# Altium footprint library vod.PcbLib: 41 footprints (part 1 of 3)
Each footprint in its own frame and in the unit in brackets; x right, y up, seen from the top. Pads: shape width x height; smd on the part's side, far side on the other; paste and mask are expansions set on the pad; w line width, h text height; cw(c..) or ccw(c..) is an arc to the next point about the centre after c.
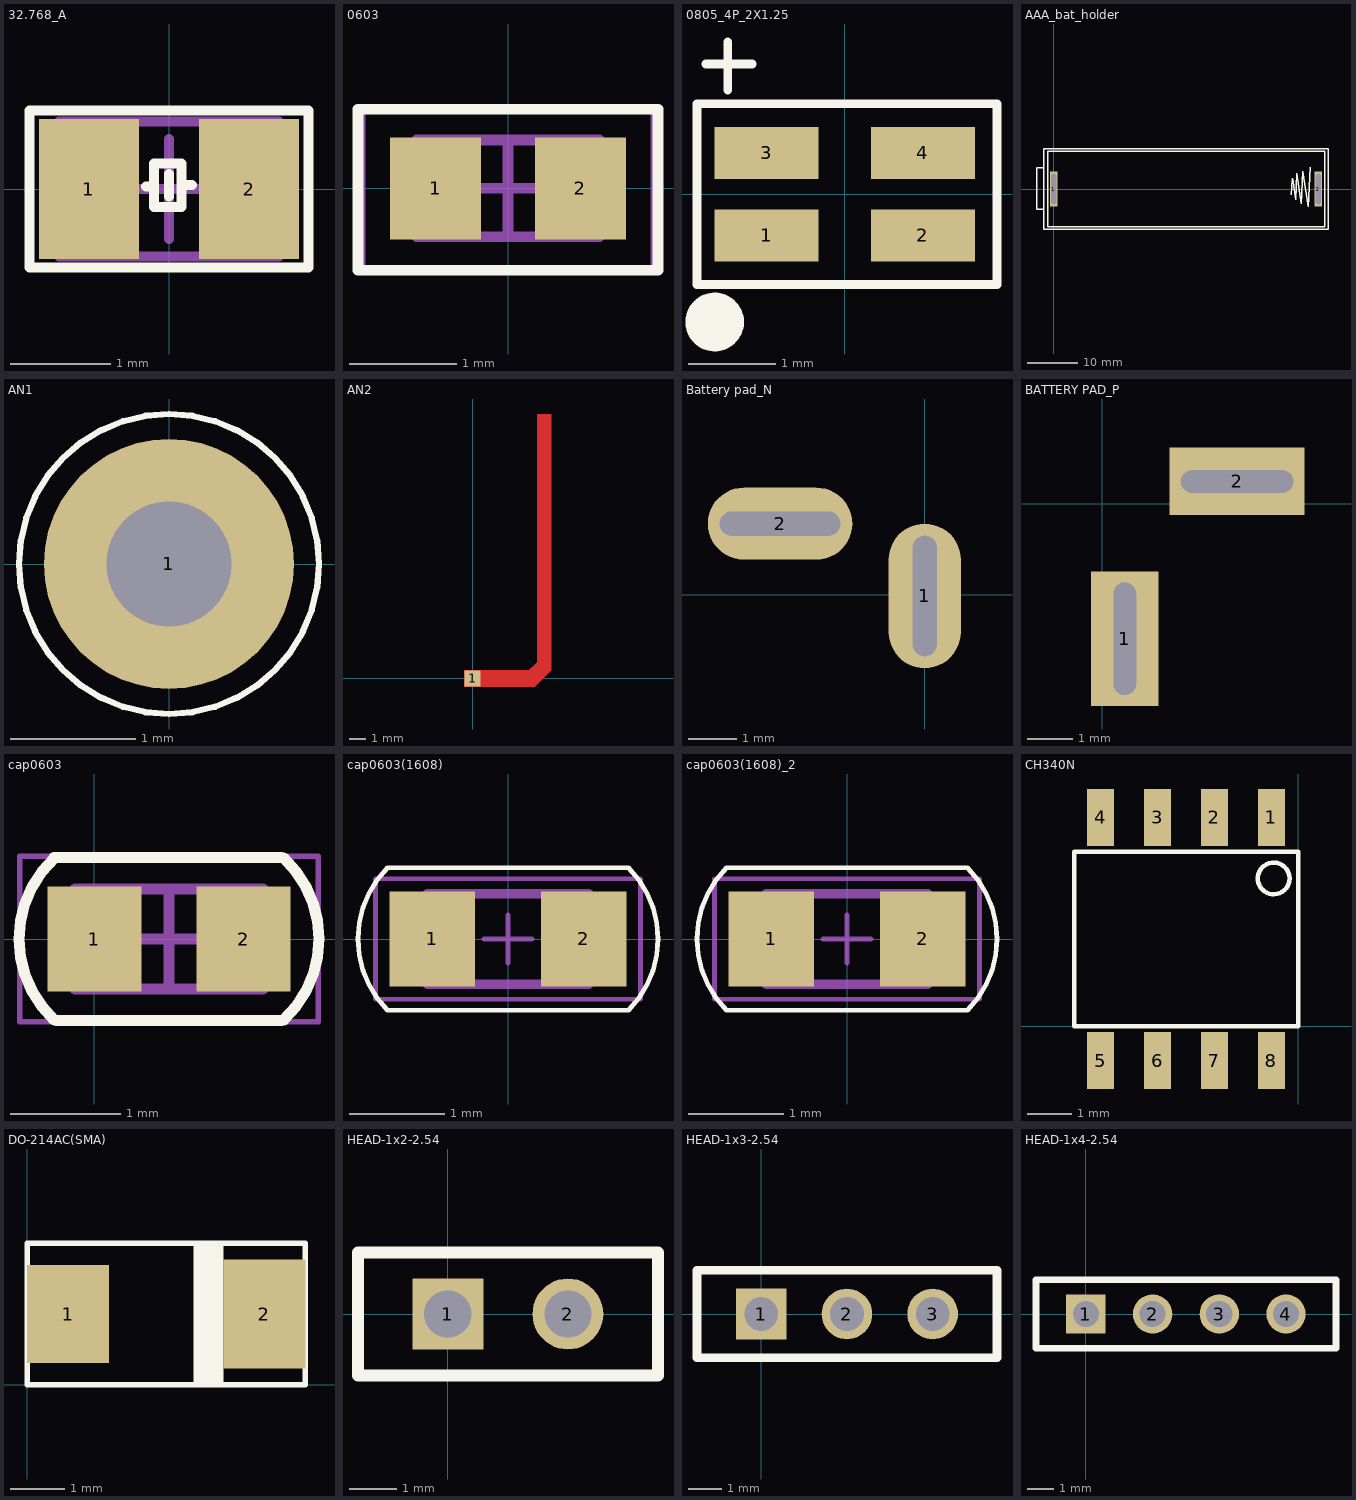
[diagram p0: the footprints below, top view; thin cyan lines are the x and y axes]

## 32.768_A [mm]
height 0.75
pads (2):
  rect 1x1.4 smd mask+0.05: 1(-0.8,0) 2(0.8,0)
Top Overlay:
  lines w0.1: -0.229,0.025 -0.152,0.025 ; 0,-0.076 0,0.152 ; 0.127,0.038 0.229,0.038 ; -1.397,-0.787 -1.397,0.787 1.397,0.787 1.397,-0.787 -1.397,-0.787 ; -0.152,-0.178 -0.152,0.254 0.127,0.254 0.127,-0.178 -0.152,-0.178
Mechanical 13:
  lines w0.1: -1.1,-0.675 -1.1,0.675 1.1,0.675 1.1,-0.675 -1.1,-0.675
Mechanical 15:
  lines w0.1: -0.5,0 0.5,0 ; 0,-0.5 0,0.5
3D body: height 0.7, standoff 0, extent 0.68,-0.675 1.1,0.675
3D body: height 0.7, standoff 0, extent -0.68,-0.675 0.68,0.675
3D body: height 0.7, standoff 0, extent -1.1,-0.675 -0.68,0.675

## 0603 [mm]
pads (2):
  rect 0.85x0.95 smd: 1(-0.675,0) 2(0.675,0)
Top Overlay:
  lines w0.1: -1.397,-0.762 1.143,-0.762 1.397,-0.762 1.397,0.737 -1.397,0.737 -1.397,-0.762
Mechanical 13:
  lines w0.1: -0.85,-0.45 -0.85,0.45 0.85,0.45 0.85,-0.45 -0.85,-0.45
Mechanical 15:
  lines w0.05: -1.35,-0.75 -1.35,0.75 1.35,0.75 1.35,-0.75 -1.35,-0.75
  lines w0.1: -0.45,0 0.45,0 ; 0,-0.45 0,0.45
3D body: height 0.89, standoff 0, extent -0.5,-0.45 0.5,0.45
3D body: height 0.89, standoff 0, extent -0.85,-0.45 -0.5,0.45
3D body: height 0.89, standoff 0, extent 0.5,-0.45 0.85,0.45

## 0805_4P_2X1.25 [mm] "LED_RG_body 2*1.25_4pin"
height 0.7
pads (4):
  rect 1.2x0.6 smd: 1(-0.9,-0.475) 2(0.9,-0.475) 3(-0.9,0.475) 4(0.9,0.475)
Top Overlay:
  circle w0.35: c-1.499,-1.473 r0.163
  lines w0.1: -1.6,1.499 -1.067,1.499 ; -1.346,1.194 -1.346,1.753 ; -1.702,-1.041 1.753,-1.041 1.753,1.041 -1.702,1.041 -1.702,-1.041
3D body: height 0.8, standoff 0.05, extent -1.651,-0.965 1.727,0.965

## AAA_bat_holder [mm]
pads (2):
  rect 1.5x7 hole 1 slot 6 at 90 deg: 1(0,0) 2(52.5,0)
Top Overlay:
  lines w0.254: -2,-4.064 -3.302,-4.064 -3.302,4.191 -2,4.191 ; 47.1,-1.143 47.371,1.987 47.401,2.018 48.024,-2.16 48.262,3.079 49.155,-2.921 49.447,3.513 50.5,-3.556 50.858,4.315 ; 54.5,7.985 54.5,-8 -2,-8 -2,8 54.5,8 ; -1.143,-7.493 53.721,-7.493 53.721,7.493 -1.143,7.493 -1.143,-7.493
Top Paste:
  rectangle: 51.23,-3.937 53.643,3.937
  rectangle: -1.27,-3.937 1.143,3.937
Bottom Paste:
  rectangle: 51.23,-3.937 53.643,3.937
  rectangle: -1.27,-3.937 1.143,3.937

## AN1 [mm] "Antenna pad"
height 0.5
pads (1):
  round 2 hole 1: 1(0,0)
Top Overlay:
  circle w0.05: c0,0 r1.2

## AN2 [mm]
pads (1):
  rect 1x1 smd: 1(0,0)
Top Layer:
  region: 3.819,-0.522 3.819,0.524 -0.534,0.524 -0.534,-0.522
  rectangle: 3.937,0.501 4.842,16.202
  region: 3.819,-0.522 4.842,0.501 4.132,1.211 3.109,0.188

## Battery pad_N [mm]
height 0.75
pads (2):
  oval 1.5x3 hole 0.5 slot 2.5 at 90 deg: 1(0,-0.025)
  oval 3x1.5 hole 0.5 slot 2.5 at 0 deg: 2(-3,1.475)
Bottom Overlay:
  lines w0.1: -3.899,-0.66 -2.045,-0.66 ; -4.724,0.533 -4.724,2.413 0.965,2.413 0.965,-1.702 -0.991,-1.702 -0.991,0.533 -4.724,0.533

## BATTERY PAD_P [mm]
pads (2):
  rect 1.5x3 hole 0.5 slot 2.5 at 90 deg: 1(0.5,-3)
  rect 3x1.5 hole 0.5 slot 2.5 at 0 deg: 2(3,0.5)
Bottom Overlay:
  lines w0.1: 1.605,-1.676 3.459,-1.676 ; 2.507,-2.603 2.507,-0.749 ; -0.457,-4.674 -0.457,1.473 4.724,1.473 4.724,-0.457 1.448,-0.457 1.448,-4.674 -0.457,-4.674

## cap0603 [mm] "Chip Capacitor, 2-Leads, Body 1.60x0.80mm, IPC Medium Density"
height 0.89
pads (2):
  rect 0.85x0.95 smd: 1(0,0) 2(1.35,0)
Top Overlay:
  lines w0.1: -0.366,0.737 1.691,0.737 ; -0.363,0.731 ccw(c0.319,0) -0.361,-0.733 ; -0.341,-0.737 1.691,-0.737 ; 1.711,0.733 cw(c1.031,0) 1.713,-0.731
Mechanical 13:
  lines w0.1: -0.175,-0.45 -0.175,0.45 1.525,0.45 1.525,-0.45 -0.175,-0.45
Mechanical 15:
  lines w0.05: -0.675,-0.75 -0.675,0.75 2.025,0.75 2.025,-0.75 -0.675,-0.75
  lines w0.1: 0.225,0 1.125,0 ; 0.675,-0.45 0.675,0.45
3D body: height 0.89, standoff 0, extent 0.175,-0.45 1.175,0.45
3D body: height 0.89, standoff 0, extent -0.175,-0.45 0.175,0.45
3D body: height 0.89, standoff 0, extent 1.175,-0.45 1.525,0.45

## cap0603(1608) [mm] "Chip capcitance, Body 1.6x0.8mm, IPC Medium Density"
height 0.7
pads (2):
  rect 0.9x1 smd: 1(-0.8,0) 2(0.8,0)
Top Overlay:
  lines w0.05: -1.27,-0.75 cw(c-0.52,0) -1.27,0.75 1.27,0.75 cw(c0.52,0) 1.27,-0.75 -1.27,-0.75
Mechanical 13:
  lines w0.1: -0.85,-0.475 -0.85,0.475 0.85,0.475 0.85,-0.475 -0.85,-0.475
Mechanical 15:
  lines w0.05: -0.254,0 0.254,0 ; 0,-0.254 0,0.254 ; -1.397,-0.635 1.397,-0.635 1.397,0.635 -1.397,0.635 -1.397,-0.635
3D body: height 0.6, standoff 0, extent 0.581,-0.474 0.85,0.475
3D body: height 0.6, standoff 0, extent -0.58,-0.474 0.581,0.475
3D body: height 0.6, standoff 0, extent -0.849,-0.474 -0.58,0.475

## cap0603(1608)_2 [mm]
pads (2):
  rect 0.9x1 smd: 1(-0.8,0) 2(0.8,0)
Top Overlay:
  lines w0.05: -1.27,-0.75 cw(c-0.52,0) -1.27,0.75 1.27,0.75 cw(c0.52,0) 1.27,-0.75 -1.27,-0.75
Mechanical 13:
  lines w0.1: -0.85,-0.475 0.85,-0.475 0.85,0.475 -0.85,0.475 -0.85,-0.475
Mechanical 15:
  lines w0.05: -0.254,0 0.254,0 ; 0,-0.254 0,0.254 ; -1.397,-0.635 -1.397,0.635 1.397,0.635 1.397,-0.635 -1.397,-0.635
3D body: height 0.6, standoff 0, extent -0.849,-0.474 -0.58,0.475
3D body: height 0.6, standoff 0, extent -0.58,-0.474 0.581,0.475
3D body: height 0.6, standoff 0, extent 0.581,-0.474 0.85,0.475

## CH340N [mm]
pads (8):
  rect 0.6x1.27 smd: 1(-0.6,4.66) 2(-1.87,4.66) 3(-3.14,4.66) 4(-4.41,4.66) 5(-4.41,-0.76) 6(-3.14,-0.76) 7(-1.87,-0.76) 8(-0.6,-0.76)
Top Overlay:
  circle w0.1: c-0.55,3.3 r0.354
  lines w0.1: -5,0 0,0 0,3.9 -5,3.9 -5,0

## DO-214AC(SMA) [mm]
pads (2):
  rect 1.5x1.8 smd: 1(0.75,1.3)
  rect 1.5x2 smd: 2(4.35,1.3)
Top Overlay:
  rectangle: 3.05,0 3.6,2.6
  lines w0.1: 0,0 0,2.6 5.1,2.6 5.1,0 0,0

## HEAD-1x2-2.54 [mm]
pads (2):
  rect 1.5x1.5 hole 1: 1(0,0)
  round 1.5 hole 1: 2(2.54,0)
Top Overlay:
  lines w0.254: -1.9,-1.3 -1.9,1.3 4.445,1.3 4.445,-1.3 -1.9,-1.3

## HEAD-1x3-2.54 [mm]
pads (3):
  rect 1.5x1.5 hole 1: 1(0,0)
  round 1.5 hole 1: 2(2.54,0) 3(5.08,0)
Top Overlay:
  lines w0.254: -1.9,-1.3 6.985,-1.3 6.985,1.3 -1.9,1.3 -1.9,-1.3

## HEAD-1x4-2.54 [mm]
pads (4):
  rect 1.5x1.5 hole 1: 1(0,0)
  round 1.5 hole 1: 2(2.54,0) 3(5.08,0) 4(7.62,0)
Top Overlay:
  lines w0.254: -1.9,-1.3 -1.9,1.3 9.525,1.3 9.525,-1.3 -1.9,-1.3